# EAGLE library part MT8870DSR1 (library 000_ICS_2021)
Telecom Interface ICs Pb Free Integrated DTMF Receiver Source: Datasheet <https://www.arrow.com/en/products/mt8870dsr1/microchip-technology>
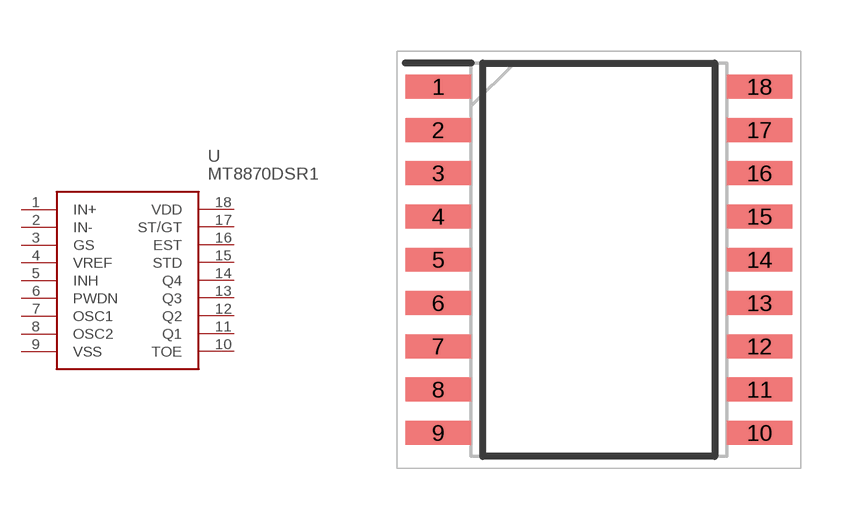
[diagram p7: symbol with the pads of SOIC127P1032X265-18N; footprint SOIC127P1032X265-18N]

Designator prefix U

## MT8870DSR1 (ICS: ICS-1080; VALUE: mt8870)  [SOIC127P1032X265-18N]
1  IN+
2  IN-
3  GS
4  VREF
5  INH
6  PWDN
7  OSC1
8  OSC2
9  VSS
10  TOE
11  Q1
12  Q2
13  Q3
14  Q4
15  STD
16  EST
17  ST/GT
18  VDD

## Footprint SOIC127P1032X265-18N (pad centres in mm)
18-l soic
smd 1.925 x 0.7: 1 -4.712,5.08; 2 -4.712,3.81; 3 -4.712,2.54; 4 -4.712,1.27; 5 -4.712,0; 6 -4.712,-1.27; 7 -4.712,-2.54; 8 -4.712,-3.81; 9 -4.712,-5.08; 10 4.712,-5.08; 11 4.712,-3.81; 12 4.712,-2.54; 13 4.712,-1.27; 14 4.712,0; 15 4.712,1.27; 16 4.712,2.54; 17 4.712,3.81; 18 4.712,5.08